# Altium footprint library PCB - INDUCTOR - RF - Murata LQW18 0603.PCBLIB: 1 footprints
Each footprint in its own frame and in the unit in brackets; x right, y up, seen from the top. Pads: shape width x height; smd on the part's side, far side on the other; paste and mask are expansions set on the pad; w line width, h text height; cw(c..) or ccw(c..) is an arc to the next point about the centre after c.
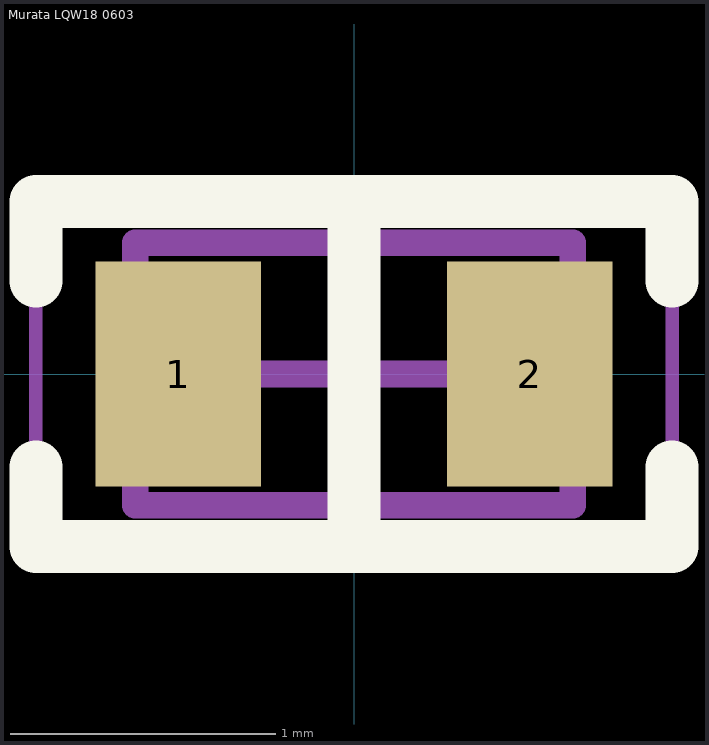
[diagram p0: the footprint, top view; thin cyan lines are the x and y axes]

## Murata LQW18 0603 [mm] "Chip Inductor, 2-Leads, Body 1.65x0.99mm, IPC Medium Density"
height 1
pads (2):
  rect 0.625x0.85 smd: 1(-0.663,0) 2(0.663,0)
Top Overlay:
  lines w0.2: -1.2,-0.35 -1.2,-0.65 1.2,-0.65 1.2,-0.35 ; -1.2,0.35 -1.2,0.65 1.2,0.65 1.2,0.35 ; 0,-0.65 0,0.65
Mechanical 13:
  lines w0.1: -0.825,-0.495 -0.825,0.495 0.825,0.495 0.825,-0.495 -0.825,-0.495
Mechanical 15:
  lines w0.05: -1.2,-0.6 -1.2,0.6 1.2,0.6 1.2,-0.6 -1.2,-0.6
  lines w0.1: -0.495,0 0.495,0 ; 0,-0.495 0,0.495
3D body "INDUC - 0603_1608 v4.step": height 0.79, standoff 0, extent -0.835,-0.536 0.835,0.55
3D body "INDUC - 0603_1608 v4.1.step": height 1, standoff 0.67, extent -0.835,-0.58 0.835,0.58